# EAGLE library part IXDF604SIA (library MyComponents)
Dual Mosfet Gate Driver (One Inverted, One Non-Inverted)
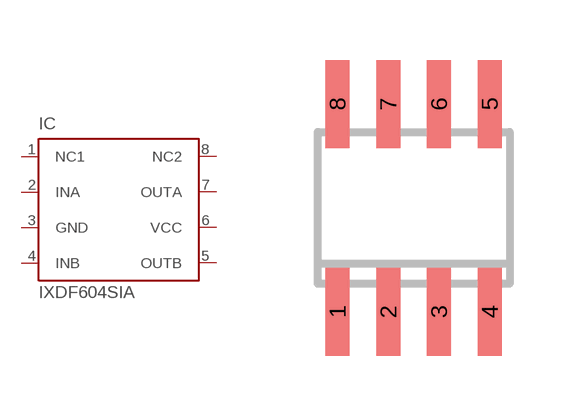
[diagram p2: symbol with the pads of SO-08; footprint SO-08]

Designator prefix IC

## IXDF604SIA (OC_FARNELL: unknown; OC_NEWARK: unknown)  [SO-08]
1  NC1  in
2  INA  in
3  GND  in
4  INB  in
5  OUTB  in
6  VCC  pwr
7  OUTA  out
8  NC2  in

## Footprint SO-08 (pad centres in mm)
Small Outline Narrow Plastic Gull Wing SOIC8, JEDEC MS-012 AA, 150-mil body, package type SN
smd 0.6 x 2.2: 1 -1.905,-2.6; 2 -0.635,-2.6; 3 0.635,-2.6; 4 1.905,-2.6; 5 1.905,2.6; 6 0.635,2.6; 7 -0.635,2.6; 8 -1.905,2.6